# EAGLE library part NLSX4373 (library SparkFun-DigitalIC)
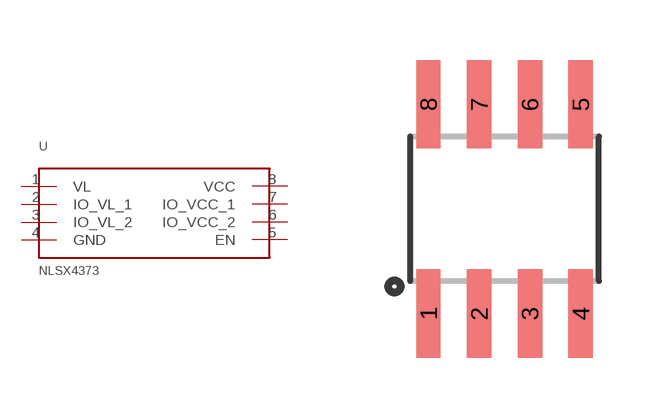
[diagram p139: symbol with the pads of SO08; footprint SO08]

Designator prefix -

## NLSX4373  [SO08]
1  VL
2  IO_VL_1
3  IO_VL_2
4  GND
5  EN
6  IO_VCC_2
7  IO_VCC_1
8  VCC

## Footprint SO08 (pad centres in mm)
Small Outline Package Fits JEDEC packages (narrow SOIC-8)
smd 0.61 x 2.21: 1 -1.905,-2.616; 2 -0.635,-2.616; 3 0.635,-2.616; 4 1.905,-2.616; 5 1.905,2.616; 6 0.635,2.616; 7 -0.635,2.616; 8 -1.905,2.616